# EAGLE library part LF398 (library ic)
LF398: Sample-and-hold circuit (National Semiconductor) ±15V, 7mV offset, 10µs acquisition
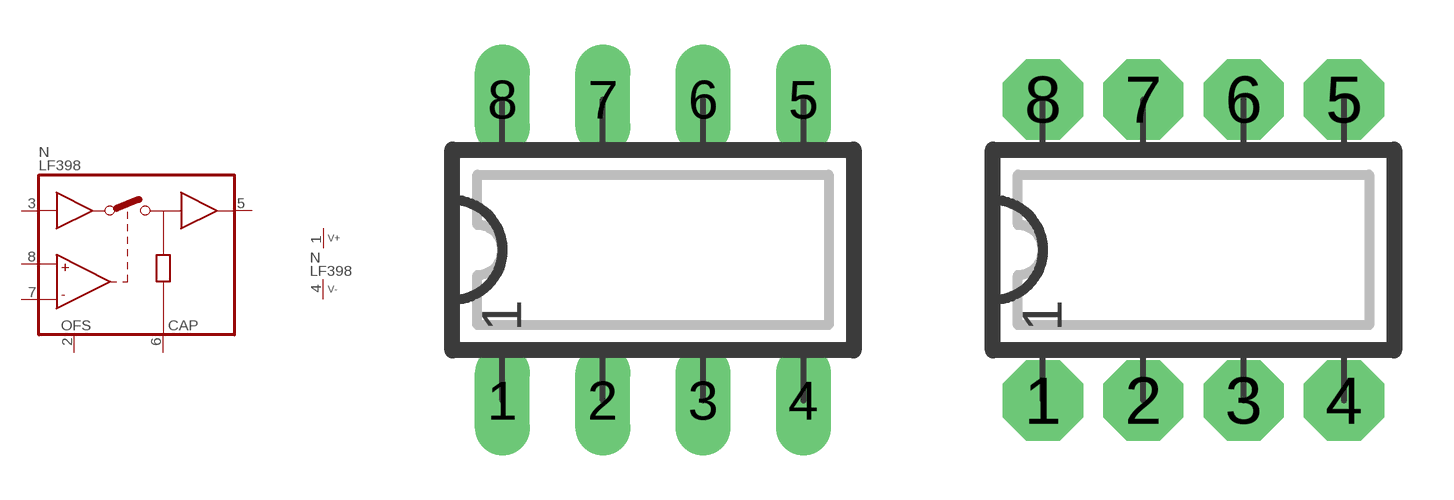
[diagram p129: symbol with the pads of DIP08L; footprints DIP08L, DIP08N]

Designator prefix N; gates A=LF398 P=V+-

## LF398  [DIP08L]
1  P:V+  pwr
2  A:OFS
3  A:AIN
4  P:V-  pwr
5  A:AOUT
6  A:CAP
7  A:LREF
8  A:LIN

## LF398L  [DIP08L]
Pads as for DIP08L

## LF398N  [DIP08N]
Pads as for DIP08L

## LF398R  [DIP08R]
Pads as for DIP08L

## LF398S  [SO14]
1  A:AIN
3  P:V-  pwr
7  A:AOUT
8  A:CAP
10  A:LREF
11  A:LIN
12  P:V+  pwr
14  A:OFS

## Footprint DIP08L (pad centres in mm)
DIP-8, long pads Standard IC package, 8 pins
drill 0.813 pad 1.397 long: 1 -3.81,-3.81; 2 -1.27,-3.81; 3 1.27,-3.81; 4 3.81,-3.81; 5 3.81,3.81; 6 1.27,3.81; 7 -1.27,3.81; 8 -3.81,3.81

## Footprint DIP08N (pad centres in mm)
DIP-8 Standard IC package, 8 pins
drill 0.813 pad 2.032 octagon: 1 -3.81,-3.81; 2 -1.27,-3.81; 3 1.27,-3.81; 4 3.81,-3.81; 5 3.81,3.81; 6 1.27,3.81; 7 -1.27,3.81; 8 -3.81,3.81

## Footprint DIP08R (pad centres in mm)
DIP-8, reduced pads Standard IC package, 8 pins
drill 0.813 pad 1.397 square: 1 -3.81,-3.81; 2 -1.27,-3.81; 3 1.27,-3.81; 4 3.81,-3.81; 5 3.81,3.81; 6 1.27,3.81; 7 -1.27,3.81; 8 -3.81,3.81

## Footprint SO14 (pad centres in mm)
SO-14, SMD SOIC IC package, 14 pins
smd 0.635 x 1.778: 1 -3.81,-2.857; 2 -2.54,-2.857; 3 -1.27,-2.857; 4 0,-2.857; 5 1.27,-2.857; 6 2.54,-2.857; 7 3.81,-2.857; 8 3.81,2.857; 9 2.54,2.857; 10 1.27,2.857; 11 0,2.857; 12 -1.27,2.857; 13 -2.54,2.857; 14 -3.81,2.857